# Altium integrated library Protection.IntLib: 14 symbols
Pins are listed as number, name and electrical type; pins without a type are passive.

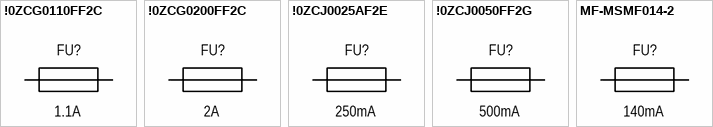
[diagram p0: symbols !0ZCG0110FF2C to MF-MSMF014-2]

## !0ZCG0110FF2C
designator FU?, comment 1.1A
PTC Resettable Fuse 1.1A 1812(4532); Manufacturer: Bel; Part name: 0ZCG0110FF2C; Group: Fuses; Package: 1812 (4532); Value: 1.1A
footprint RFUSE4532N (SMT Low Profile PTC Resettable Fuses, Body 4.5x3.2mm)
pins: 1, 2

## !0ZCG0200FF2C
designator FU?, comment 2A
PTC Resettable Fuse 2A 1812(4532); Manufacturer: Bel; Part name: 0ZCG0200FF2C; Group: Fuses; Package: 1812 (4532); Value: 2A
footprint RFUSE4532N (SMT Low Profile PTC Resettable Fuses, Body 4.5x3.2mm)
pins: 1, 2

## !0ZCJ0025AF2E
designator FU?, comment 250mA
PTC Resettable Fuse 250mA 1206(3216); Manufacturer: Bel; Part name: 0ZCJ0025AF2E; Group: Fuses; Package: 1206 (3216); Value: 250mA
footprint RFUSE3216N (SMT Low Profile PTC Resettable Fuses, Body 3.2x1.6mm)
pins: 1, 2

## !0ZCJ0050FF2G
designator FU?, comment 500mA
PTC Resettable Fuse 500mA 1206(3216); Manufacturer: Bel; Part name: 0ZCJ0050FF2G; Group: Fuses; Package: 1206 (3216); Value: 500mA
footprint RFUSE3216N (SMT Low Profile PTC Resettable Fuses, Body 3.2x1.6mm)
pins: 1, 2

## MF-MSMF014-2
designator FU?, comment 140mA
PTC Resettable Fuse 1.1A 1812(4532); Manufacturer: Bourns; Part name: MF-MSMF014-2; Group: Protection; Component: Fuse PTC; Dimention: 4.55mm x 3.24mm; Voltage: 60V; Current trip: 140mA; Package: 1812 (4532); Height: 1.10mm; Operating temperature: -40°C +85°C
footprint RFUSE4532N (SMT Low Profile PTC Resettable Fuses, Body 4.5x3.2mm)
pins: 1, 2


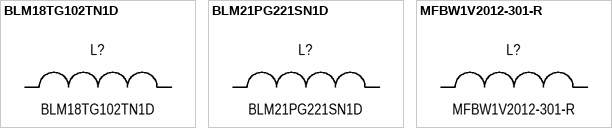
[diagram p1: symbols BLM18TG102TN1D to MFBW1V2012-301-R]

## BLM18TG102TN1D
designator L?
Ferrite bead 100mA 0603(1608); Manufacturer: Samsung Electro-Mechanics; Group: Power; Current Rating: 1.7A; DC Resistance: 470mOhm; Impedance/Frequency: 1kOhm/100MHz; Component: Protection Filter Ferrite_beads; Part name: BLM18TG102TN1D; Package: 0603 (1608); Dimension: 1.60mm x 0.80mm; Operating temperature: -55°C +125°C; Height: 0.70mm; Mounting type: Surface mount
footprint FRBC1608N
pins: 1, 2

## BLM21PG221SN1D
designator L?
Ferrite bead 2A 0805(2012); Manufacturer: Murata Electronics; Group: Power; Current Rating: 2.0A; DC Resistance: 470mOhm; Impedance/Frequency: 220Ohms/00MHz; Component: Protection Filter Ferrite_beads; Part name: BLM21PG221SN1D; Package: 0805 (2012); Dimension: 2.00mm x 1.25mm; Operating temperature: -55°C +125°C; Height: 1.05mm; Mounting type: Surface mount
footprint FRBC2012N
pins: 1, 2

## MFBW1V2012-301-R
designator L?
Ferrite bead 2A 0805(2012); Manufacturer: Eaton; Group: Power; Current Rating: 2.0A; DC Resistance: 200mOhm; Impedance/Frequency: 300Ohms/100MHz; Component: Protection Filter Ferrite_beads; Part name: MFBW1V2012-301-R; Package: 0805 (2012); Dimension: 2.00mm x 1.25mm; Operating temperature: -40°C +85°C; Height: 1.10mm; Mounting type: Surface mount
footprint FRBC2012N
pins: 1, 2


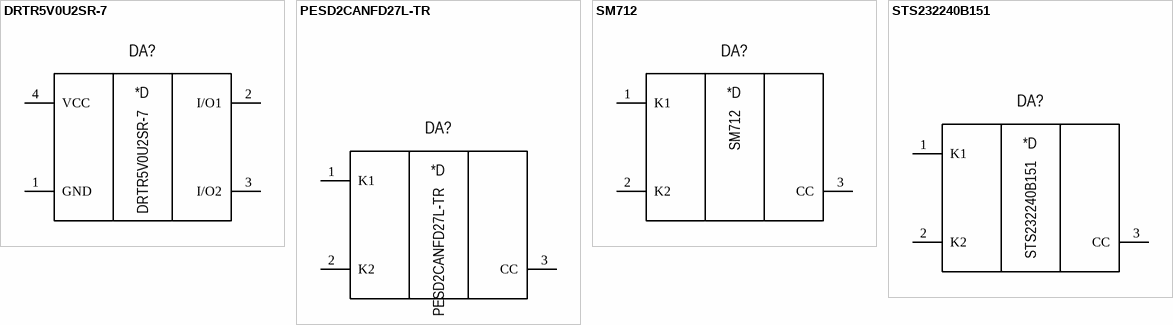
[diagram p2: symbols DRTR5V0U2SR-7 to STS232240B151]

## DRTR5V0U2SR-7
designator DA?
Diode TVS Array 2Ch USB SOT-143; Manufacturer: Diodes Incorporated; Group: TVS - Diodes; Package: SOT-143; Part name: DRTR5V0U2SR-7
footprint SOT-143
pins: 1 GND "Ground pin", 2 I/O1, 3 I/O2, 4 VCC
text: *D

## PESD2CANFD27L-TR
designator DA?
Diode TVS Array 2Ch CAN SOT-23-3; Manufacturer: Nexperia; Group: TVS - Diodes; Package: SOT-23-3; Part name: PESD2CANFD27L-TR
footprint SOT-23-3L
footprint SOT-23-3N
pins: 1 K1 "Cathode", 2 K2 "Cathode", 3 CC "Common cathode"
text: *D

## SM712
designator DA?
Diode TVS Array 2Ch; Manufacturer: Semtech; Group: TVS - Diodes; Package: SOT-23-3; Part name: SM712
footprint SOT-23-3N
footprint SOT-23-3L
pins: 1 K1 "Cathode", 2 K2 "Cathode", 3 CC "Common cathode"
text: *D

## STS232240B151
designator DA?
Diode TVS Array 2Ch SOT-23-3; Manufacturer: Eaton; Group: TVS - Diodes; Package: SOT-23-3; Part name: STS232240B151
footprint SOT-23-3N
footprint SOT-23-3L
pins: 1 K1 "Cathode", 2 K2 "Cathode", 3 CC "Common cathode"
text: *D


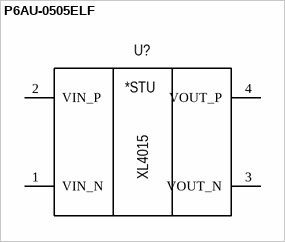
[diagram p3: symbol P6AU-0505ELF]

## P6AU-0505ELF
designator U?, comment XL4015
Manufacturer: XLSEMI; Group: PMIC - Voltage Regulators - DC DC Switching Regulators; Package: TO-263-5; Part name: XL4015; Datasheet: http://www.xlsemi.com/datasheet/xl4015%20datasheet.pdf
footprint POWER DCDC P6AU
pins: 1 VIN_N, 2 VIN_P, 3 VOUT_N, 4 VOUT_P
text: *STU


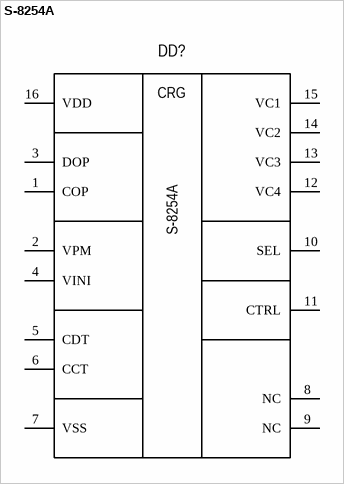
[diagram p4: symbol S-8254A]

## S-8254A
designator DD?
Battery Protection 3-4Cell Li-ion/Li Polymer; Manufacturer: SII Semiconductor Corporation; Group: PMIC - Battery Chargers; Package: TSSOP-16; Part name: S-8254A; Datasheet: http://datasheet.sii-ic.com/en/battery_protection/S8254A_E.pdf
footprint TSSOP-16
pins: 1 COP "Charger input supply voltage", 2 VPM "Charger input supply voltage", 3 DOP "Charger input supply voltage", 4 VINI "Charger input supply voltage", 5 CDT "Charger input supply voltage", 6 CCT "Charger input supply voltage", 7 VSS "Charger input supply voltage", 8 NC "Charger input supply voltage", 9 NC "Charger input supply voltage", 10 SEL "Charger input supply voltage", 11 CTRL "Charger input supply voltage", 12 VC4 "Charger input supply voltage", 13 VC3 "Charger input supply voltage", 14 VC2 "Charger input supply voltage", 15 VC1 "Charger input supply voltage", 16 VDD "Charger input supply voltage"
text: CRG